# Altium schematic symbol library SCH - MCU - NUVOTON - NUVOTON NANO120SC2AN.SchLib: 1 symbol
Pins are listed as number, name and electrical type; pins without a type are passive.

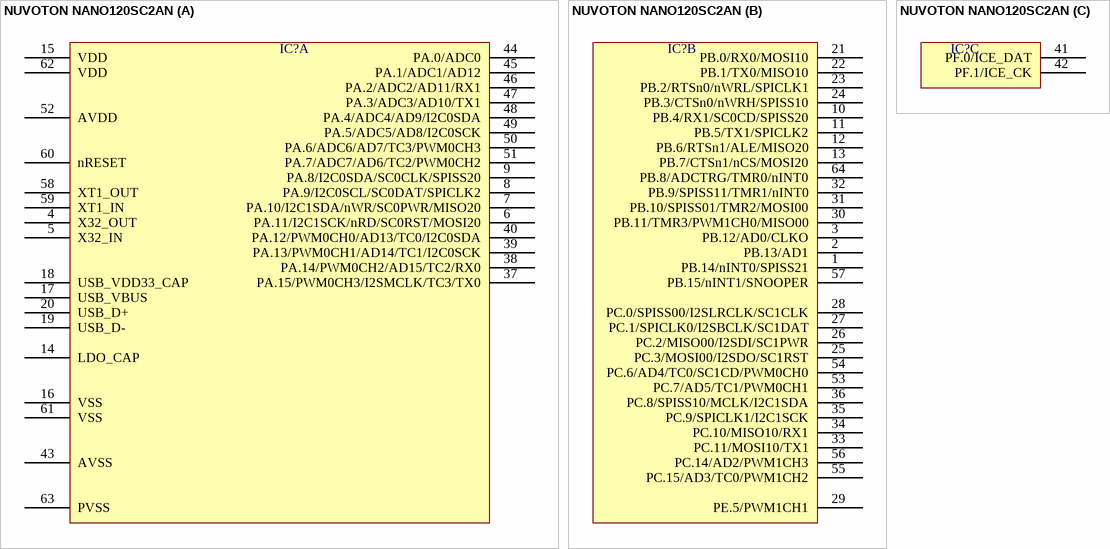
[diagram p0: symbol NUVOTON NANO120SC2AN]

## NUVOTON NANO120SC2AN
designator IC?  (value not drawn)
part A pins: 4 X32_OUT, 5 X32_IN, 6 PA.11/I2C1SCK/nRD/SC0RST/MOSI20, 7 PA.10/I2C1SDA/nWR/SC0PWR/MISO20, 8 PA.9/I2C0SCL/SC0DAT/SPICLK2, 9 PA.8/I2C0SDA/SC0CLK/SPISS20, 14 LDO_CAP, 15 VDD, 16 VSS, 17 USB_VBUS, 18 USB_VDD33_CAP, 19 USB_D-, 20 USB_D+, 37 PA.15/PWM0CH3/I2SMCLK/TC3/TX0, 38 PA.14/PWM0CH2/AD15/TC2/RX0, 39 PA.13/PWM0CH1/AD14/TC1/I2C0SCK, 40 PA.12/PWM0CH0/AD13/TC0/I2C0SDA, 43 AVSS, 44 PA.0/ADC0, 45 PA.1/ADC1/AD12, 46 PA.2/ADC2/AD11/RX1, 47 PA.3/ADC3/AD10/TX1, 48 PA.4/ADC4/AD9/I2C0SDA, 49 PA.5/ADC5/AD8/I2C0SCK, 50 PA.6/ADC6/AD7/TC3/PWM0CH3, 51 PA.7/ADC7/AD6/TC2/PWM0CH2, 52 AVDD, 58 XT1_OUT, 59 XT1_IN, 60 nRESET, 61 VSS, 62 VDD, 63 PVSS
part B pins: 1 PB.14/nINT0/SPISS21, 2 PB.13/AD1, 3 PB.12/AD0/CLKO, 10 PB.4/RX1/SC0CD/SPISS20, 11 PB.5/TX1/SPICLK2, 12 PB.6/RTSn1/ALE/MISO20, 13 PB.7/CTSn1/nCS/MOSI20, 21 PB.0/RX0/MOSI10, 22 PB.1/TX0/MISO10, 23 PB.2/RTSn0/nWRL/SPICLK1, 24 PB.3/CTSn0/nWRH/SPISS10, 25 PC.3/MOSI00/I2SDO/SC1RST, 26 PC.2/MISO00/I2SDI/SC1PWR, 27 PC.1/SPICLK0/I2SBCLK/SC1DAT, 28 PC.0/SPISS00/I2SLRCLK/SC1CLK, 29 PE.5/PWM1CH1, 30 PB.11/TMR3/PWM1CH0/MISO00, 31 PB.10/SPISS01/TMR2/MOSI00, 32 PB.9/SPISS11/TMR1/nINT0, 33 PC.11/MOSI10/TX1, 34 PC.10/MISO10/RX1, 35 PC.9/SPICLK1/I2C1SCK, 36 PC.8/SPISS10/MCLK/I2C1SDA, 53 PC.7/AD5/TC1/PWM0CH1, 54 PC.6/AD4/TC0/SC1CD/PWM0CH0, 55 PC.15/AD3/TC0/PWM1CH2, 56 PC.14/AD2/PWM1CH3, 57 PB.15/nINT1/SNOOPER, 64 PB.8/ADCTRG/TMR0/nINT0
part C pins: 41 PF.0/ICE_DAT, 42 PF.1/ICE_CK